# Altium footprint library CAMERA_PcbLib.PcbLib: 21 footprints (part 1 of 2)
Each footprint in its own frame and in the unit in brackets; x right, y up, seen from the top. Pads: shape width x height; smd on the part's side, far side on the other; paste and mask are expansions set on the pad; w line width, h text height; cw(c..) or ccw(c..) is an arc to the next point about the centre after c.
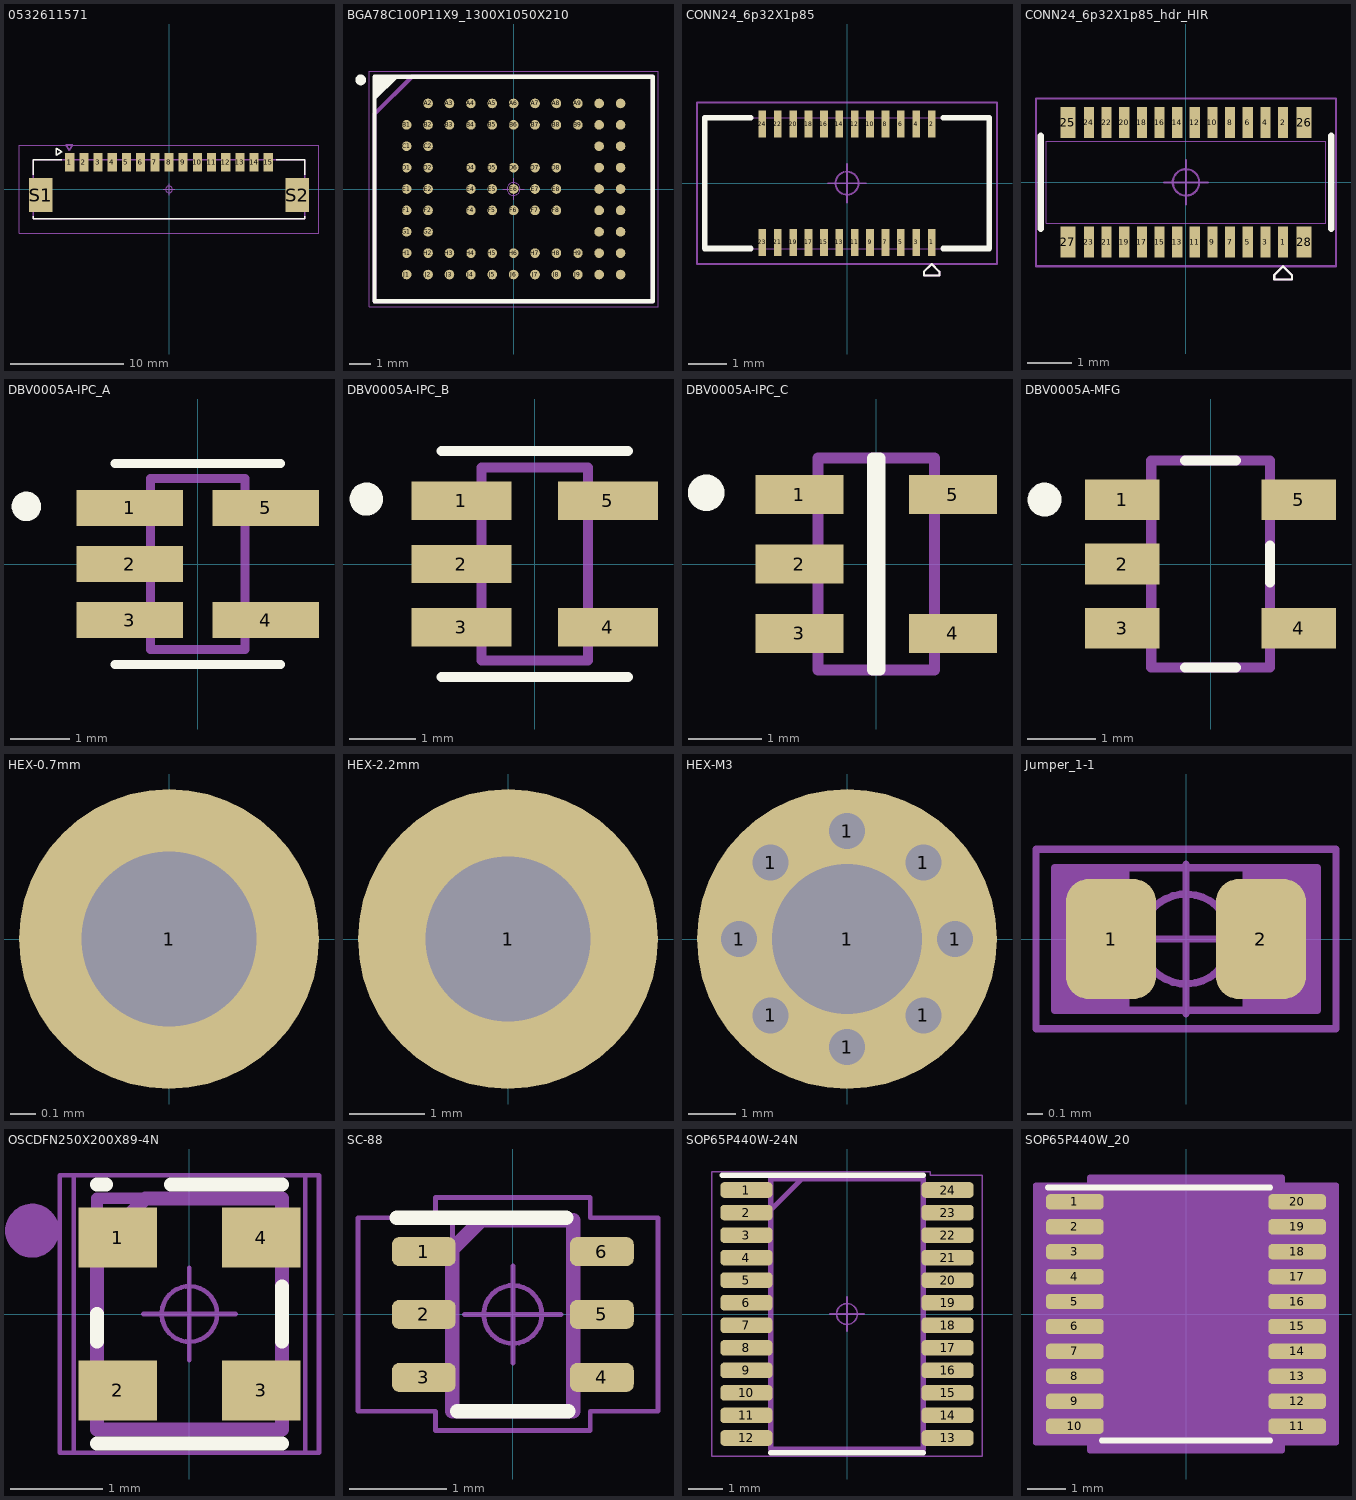
[diagram p0: the footprints below, top view; thin cyan lines are the x and y axes]

## 0532611571 [mm]
height 3.4
pads (17):
  rect 0.8x1.6 smd mask+0.076: 1(-8.75,2.4) 2(-7.5,2.4) 3(-6.25,2.4) 4(-5,2.4) 5(-3.75,2.4) 6(-2.5,2.4) 7(-1.25,2.4) 8(0,2.4) 9(1.25,2.4) 10(2.5,2.4) 11(3.75,2.4) 12(5,2.4) 13(6.25,2.4) 14(7.5,2.4) 15(8.75,2.4)
  rect 2.1x3 smd mask+0.076: S1(-11.3,-0.5) S2(11.3,-0.5)
Top Overlay:
  lines w0.127: -11.95,-2.35 -11.95,-2.6 11.95,-2.6 11.95,-2.35 ; -11.95,1.3 -11.95,2.6 -9.47,2.6 ; 9.47,2.6 11.95,2.6 11.95,1.3 ; -9.942,3.012 -9.442,3.312 -9.942,3.612 -9.942,3.012
Top Courtyard:
  lines w0.05: -13.22,-3.87 -13.22,3.87 13.22,3.87 13.22,-3.87 -13.22,-3.87
Bottom 3D Body:
  text "'.Designator'" at -4.433,-0.827 h1.6
Top Assembly:
  lines w0.127: -11.95,-2.6 -11.95,2.6 11.95,2.6 11.95,-2.6 -11.95,-2.6 ; -9.088,3.942 -8.788,3.442 -8.488,3.942 -9.088,3.942
  text "'.Designator'" at -4.433,-0.827 h1.6
Top Component Center:
  circle w0.05: c0,0 r0.3
  lines w0.05: -0.5,0 0.5,0 ; 0,-0.5 0,0.5
3D body "532611571.stp": height 3.45, standoff 0.05, extent -11.95,-2.607 11.95,2.593

## BGA78C100P11X9_1300X1050X210 [mm] "BGA, 78-Leads, Body 13.00x10.50mmx2.10mm, Pitch 1.00mm"
height 2.1
pads (78):
  round 0.45 smd: A2(-4,4) A3(-3,4) A4(-2,4) A5(-1,4) A6(0,4) A7(1,4) A8(2,4) A9(3,4) A10(4,4) A11(5,4) B1(-5,3) B2(-4,3) B3(-3,3) B4(-2,3) B5(-1,3) B6(0,3) B7(1,3) B8(2,3) B9(3,3) B10(4,3) B11(5,3) C1(-5,2) C2(-4,2) C10(4,2) C11(5,2) D1(-5,1) D2(-4,1) D4(-2,1) D5(-1,1) D6(0,1) D7(1,1) D8(2,1) D10(4,1) D11(5,1) E1(-5,0) E2(-4,0) E4(-2,0) E5(-1,0) E6(0,0) E7(1,0) E8(2,0) E10(4,0) E11(5,0) F1(-5,-1) F2(-4,-1) F4(-2,-1) F5(-1,-1) F6(0,-1) F7(1,-1) F8(2,-1) F10(4,-1) F11(5,-1) G1(-5,-2) G2(-4,-2) G10(4,-2) G11(5,-2) H1(-5,-3) H2(-4,-3) H3(-3,-3) H4(-2,-3) H5(-1,-3) H6(0,-3) H7(1,-3) H8(2,-3) H9(3,-3) H10(4,-3) H11(5,-3) J1(-5,-4) J2(-4,-4) J3(-3,-4) J4(-2,-4) J5(-1,-4) J6(0,-4) J7(1,-4) J8(2,-4) J9(3,-4) J10(4,-4) J11(5,-4)
Top Overlay:
  circle w0.25: c-7.15,5.1 r0.125
  region: -5.5,5.25 -6.5,4.25 -6.5,5.25
  lines w0.2: -6.5,4.25 -5.5,5.25 ; -6.5,-5.25 -6.5,5.25 6.5,5.25 6.5,-5.25 -6.5,-5.25
Top Courtyard:
  lines w0.05: -6.75,-5.5 -6.75,5.5 6.75,5.5 6.75,-5.5 -6.75,-5.5
Top Assembly:
  lines w0.2: -6.5,-5.25 -6.5,3.5 -4.75,5.25 6.5,5.25 6.5,-5.25 -6.5,-5.25
  text "'.Designator'" at -4.433,-0.827 h1.6
Top Component Center:
  circle w0.05: c0,0 r0.3
  lines w0.05: -0.5,0 0.5,0 ; 0,-0.5 0,0.5
3D body "BGA78C100P11X9_1300X1050X210.step": height 2.1, standoff 0, extent -6.5,-5.25 6.5,5.25

## CONN24_6p32X1p85 [mm]
pads (24):
  rect 0.2x0.7 smd paste+0 mask+0: 1(2.2,-1.54) 2(2.2,1.54) 3(1.8,-1.54) 4(1.8,1.54) 5(1.4,-1.54) 6(1.4,1.54) 7(1,-1.54) 8(1,1.54) 9(0.6,-1.54) 10(0.6,1.54) 11(0.2,-1.54) 12(0.2,1.54) 13(-0.2,-1.54) 14(-0.2,1.54) 15(-0.6,-1.54) 16(-0.6,1.54) 17(-1,-1.54) 18(-1,1.54) 19(-1.4,-1.54) 20(-1.4,1.54) 21(-1.8,-1.54) 22(-1.8,1.54) 23(-2.2,-1.54) 24(-2.2,1.54)
Top Overlay:
  lines w0.05: 2,-2.4 2.4,-2.4 2.4,-2.3 2.2,-2.1 2,-2.3 2,-2.4
  lines w0.15: -2.5,-1.7 -3.7,-1.7 -3.7,1.7 -2.5,1.7 ; 2.5,-1.7 3.7,-1.7 3.7,1.7 2.5,1.7
Top Courtyard:
  lines w0.05: -3.9,-2.1 -3.9,2.1 3.9,2.1 3.9,-2.1 -2.9,-2.1 -3.9,-2.1
Top Assembly:
  lines w0.025: -3.7,-1.7 -3.7,1.7 3.7,1.7 3.7,-1.7 -3.7,-1.7
  lines w0.05: 2.2,-1.8 2.2,-1.8 ; 2.2,-1.8 2.2,-1.8 ; 2,-2.4 2,-2.3 2.2,-2.1 2.4,-2.3 2.4,-2.4 2,-2.4
  text "'.Designator'" at -4.433,-0.827 h1.6
Top Component Center:
  circle w0.05: c0,0 r0.3
  lines w0.05: -0.5,0 0.5,0 ; 0,-0.5 0,0.5
3D body "DF40C-24DS-0.4V_51_.stp": height 1.4, standoff -0.05, extent -3.7,-1.69 3.7,1.69

## CONN24_6p32X1p85_hdr_HIR [mm]
pads (28):
  rect 0.23x0.7 smd paste+0 mask+0: 1(2.2,-1.355) 2(2.2,1.355) 3(1.8,-1.355) 4(1.8,1.355) 5(1.4,-1.355) 6(1.4,1.355) 7(1,-1.355) 8(1,1.355) 9(0.6,-1.355) 10(0.6,1.355) 11(0.2,-1.355) 12(0.2,1.355) 13(-0.2,-1.355) 14(-0.2,1.355) 15(-0.6,-1.355) 16(-0.6,1.355) 17(-1,-1.355) 18(-1,1.355) 19(-1.4,-1.355) 20(-1.4,1.355) 21(-1.8,-1.355) 22(-1.8,1.355) 23(-2.2,-1.355) 24(-2.2,1.355)
  rect 0.35x0.7 smd paste-0.66 mask-0.66: 25(-2.675,1.355) 26(2.675,1.355) 27(-2.675,-1.355) 28(2.675,-1.355)
Top Overlay:
  lines w0.05: 2,-2.2 2.4,-2.2 2.4,-2.1 2.2,-1.9 2,-2.1 2,-2.2
  lines w0.152: -3.289,-1.054 -3.289,1.054 ; 3.289,-1.054 3.289,1.054
Top Courtyard:
  lines w0.05: -3.4,-1.9 -3.4,1.9 3.4,1.9 3.4,-1.9 -3.1,-1.9 -3.4,-1.9
Top Assembly:
  lines w0.025: -3.162,-0.927 -3.162,0.927 3.162,0.927 3.162,-0.927 -3.162,-0.927
  lines w0.05: 2,-2.2 2,-2.1 2.2,-1.9 2.4,-2.1 2.4,-2.2 2,-2.2
  text "'.Designator'" at -4.433,-0.827 h1.6
Top Component Center:
  circle w0.05: c0,0 r0.3
  lines w0.05: -0.5,0 0.5,0 ; 0,-0.5 0,0.5
3D body "DF40C-24DP-0.4V_51_.stp": height 1.14, standoff 0, extent -3.16,-1.485 3.16,1.485

## DBV0005A-IPC_A [mm]
pads (5):
  rect 1.805x0.612 smd paste+0 mask+0: 1(-1.15,0.95) 2(-1.15,0) 3(-1.15,-0.95) 4(1.15,-0.95) 5(1.15,0.95)
Top Overlay:
  circle w0.25: c-2.903,0.975 r0.125
  lines w0.15: -1.4,-1.7 1.4,-1.7 ; -1.4,1.7 1.4,1.7
Mechanical 13:
  lines w0.15: -0.8,-1.45 -0.8,1.45 0.8,1.45 0.8,-1.45 -0.8,-1.45
3D body "AP7366-W5-7.step": height 1.4, standoff 0, extent -1.425,-1.5 1.425,1.5

## DBV0005A-IPC_B [mm]
pads (5):
  rect 1.505x0.572 smd paste+0 mask+0: 1(-1.1,0.95) 2(-1.1,0) 3(-1.1,-0.95) 4(1.1,-0.95) 5(1.1,0.95)
Top Overlay:
  circle w0.25: c-2.528,0.975 r0.125
  lines w0.15: -1.4,-1.7 1.4,-1.7 ; -1.4,1.7 1.4,1.7
Mechanical 13:
  lines w0.15: -0.8,-1.45 0.8,-1.45 0.8,1.45 -0.8,1.45 -0.8,-1.45
3D body "AP7366-W5-7.step": height 1.4, standoff 0, extent -1.425,-1.5 1.425,1.5

## DBV0005A-IPC_C [mm]
pads (5):
  rect 1.205x0.532 smd paste+0 mask+0: 1(-1.05,0.95) 2(-1.05,0) 3(-1.05,-0.95) 4(1.05,-0.95) 5(1.05,0.95)
Top Overlay:
  circle w0.25: c-2.328,0.975 r0.125
  lines w0.15: -0.052,-1.45 -0.052,1.45 0.052,1.45 0.052,-1.45 -0.052,-1.45
Mechanical 13:
  lines w0.15: -0.8,-1.45 0.8,-1.45 0.8,1.45 -0.8,1.45 -0.8,-1.45
3D body "AP7366-W5-7.step": height 1.4, standoff 0, extent -1.425,-1.5 1.425,1.5

## DBV0005A-MFG [mm]
pads (5):
  rect 1.1x0.6 smd paste+0 mask+0: 1(-1.3,0.95) 2(-1.3,0) 3(-1.3,-0.95) 4(1.3,-0.95) 5(1.3,0.95)
Top Overlay:
  circle w0.25: c-2.45,0.95 r0.125
  lines w0.15: -0.375,-1.525 0.375,-1.525 ; -0.375,1.525 0.375,1.525 ; 0.875,-0.275 0.875,0.275
Mechanical 13:
  lines w0.15: -0.875,-1.525 0.875,-1.525 0.875,1.525 -0.875,1.525 -0.875,-1.525
3D body "AP7366-W5-7.step": height 1.4, standoff 0, extent -1.425,-1.5 1.425,1.5

## HEX-0.7mm [mm]
pads (1):
  round 1.2 hole 0.7: 1(0,0)

## HEX-2.2mm [mm]
pads (1):
  round 4 hole 2.2: 1(0,0)

## HEX-M3 [mil]
pads (9):
  round 60 hole 30 mask+0: 1(-90,0) 1(-63.64,-63.64) 1(-63.64,63.64) 1(0,-90) 1(0,90) 1(63.64,-63.64) 1(63.64,63.64) 1(90,0)
  round 250 hole 125.2: 1(0,0)

## Jumper_1-1 [mm]
pads (2):
  rrect50% 0.6x0.8 smd paste-2539.97: 1(-0.5,0) 2(0.5,0)
Top Courtyard:
  lines w0.05: -1,-0.6 -1,0.6 1,0.6 1,-0.6 -1,-0.6
Top 3D Body:
  rectangle: 0.375,-0.475 0.875,0.475
  rectangle: -0.875,-0.475 -0.375,0.475
  lines w0.05: -0.875,-0.475 0.875,-0.475 0.875,0.475 -0.875,0.475 -0.875,-0.475
Bottom 3D Body:
  text "'.Designator'" at -4.217,-0.663 h1.6
Top Component Center:
  circle w0.05: c0,0 r0.3
  lines w0.05: -0.5,0 0.5,0 ; 0,-0.5 0,0.5

## OSCDFN250X200X89-4N [mm]
pads (4):
  rect 0.85x0.65 smd: 1(-0.775,0.825) 2(-0.775,-0.825) 3(0.775,-0.825) 4(0.775,0.825)
Top Overlay:
  lines w0.15: -1,-1.4 1,-1.4 ; -1,-0.3 -1,0 ; -1,1.4 -0.9,1.4 ; -0.2,1.4 1,1.4 ; 1,-0.3 1,0.3
Top Courtyard:
  lines w0.05: -1.4,-1.5 -1.4,1.5 1.2,1.5 1.4,1.5 1.4,-1.5 -1.4,-1.5
Top Component Outline:
  lines w0.05: -1,-1.25 1,-1.25 1,1.25 -1,1.25 -1,-1.25
Top Assembly:
  lines w0.15: -1,-1.25 1,-1.25 1,1.25 -0.475,1.25 -1,0.725 -1,-1.25
  text "'.Designator'" at -4.433,-0.827 h1.6
Mechanical 13:
  circle w0.3: c-1.7,0.9 r0.141
  lines w0.127: -1,-1.25 -1,1.25 1,1.25 1,-1.25 -1,-1.25
Mechanical 15:
  lines w0.05: -1.25,-1.5 -1.25,1.5 1.25,1.5 1.25,-1.5 -1.25,-1.5
Top Component Center:
  circle w0.05: c0,0 r0.3
  lines w0.05: -0.5,0 0.5,0 ; 0,-0.5 0,0.5
3D body "CDFN4_2P5X2_MCH.step": height 0.89, standoff 0, extent -1.029,-1.27 1.029,1.27

## SC-88 [mm] "6-TSSOP, SC-88, SOT-363 / SC-88/SC70-6/SOT-363"
pads (6):
  rrect50% 0.66x0.3 smd: 1(-0.92,0.65) 2(-0.92,0) 3(-0.92,-0.65) 4(0.92,-0.65) 5(0.92,0) 6(0.92,0.65)
Top Overlay:
  lines w0.15: -1.2,1 -1.05,1 0.55,1 ; -0.575,-1 0.575,-1
Top Courtyard:
  lines w0.05: -1.6,-1 -1.6,1 -0.8,1 -0.8,1.21 0.8,1.21 0.8,1 1.5,1 1.5,-1 0.8,-1 0.8,-1.2 -0.8,-1.2 -0.8,-1 -1.6,-1
Bottom 3D Body:
  text "'.Designator'" at -4.433,-0.827 h1.6
Top Component Outline:
  lines w0.05: -0.625,-1 -0.625,1 0.625,1 0.625,-1 -0.625,-1
Top Assembly:
  lines w0.15: -0.625,-1 -0.625,0.675 -0.325,0.975 -0.3,0.975 0.625,0.975 0.625,-1 -0.625,-1
  text "'.Designator'" at -4.433,-0.827 h1.6
Top Component Center:
  circle w0.05: c0,0 r0.3
  lines w0.05: -0.5,0 0.5,0 ; 0,-0.5 0,0.5
3D body "BC847BDW1T1G.step": height 1.1, standoff 0, extent -1.05,-1 1.05,1

## SOP65P440W-24N [mm] "TSSOP-24 4.40mm Width"
pads (24):
  rrect50% 1.5x0.45 smd: 1(-2.9,3.575) 2(-2.9,2.925) 3(-2.9,2.275) 4(-2.9,1.625) 5(-2.9,0.975) 6(-2.9,0.325) 7(-2.9,-0.325) 8(-2.9,-0.975) 9(-2.9,-1.625) 10(-2.9,-2.275) 11(-2.9,-2.925) 12(-2.9,-3.575) 13(2.9,-3.575) 14(2.9,-2.925) 15(2.9,-2.275) 16(2.9,-1.625) 17(2.9,-0.975) 18(2.9,-0.325) 19(2.9,0.325) 20(2.9,0.975) 21(2.9,1.625) 22(2.9,2.275) 23(2.9,2.925) 24(2.9,3.575)
Top Overlay:
  lines w0.15: -3.6,4 2.2,4 ; -2.2,-4 2.2,-4
Top Courtyard:
  lines w0.05: -3.9,-4.1 -3.9,4.1 -3.6,4.1 -2.4,4.1 2.4,4.1 2.4,4 3.9,4 3.9,-4.1 2.4,-4.1 -2.3,-4.1 -3.9,-4.1
Top Component Outline:
  lines w0.15: -2.2,-3.9 2.2,-3.9 2.2,3.9 -2.2,3.9 -2.2,-3.9
Top Assembly:
  lines w0.15: -2.2,-3.9 2.2,-3.9 2.2,3.9 -1.3,3.9 -2.1,3.1 -2.2,3 -2.2,-3.9
  text "'.Designator'" at -4.433,-0.827 h1.6
Top Component Center:
  circle w0.05: c0,0 r0.3
  lines w0.05: -0.5,0 0.5,0 ; 0,-0.5 0,0.5
3D body "TCA6416APWR.step": height 1.2, standoff 0, extent -3.2,-3.9 3.2,3.9

## SOP65P440W_20 [mm] "TSSOP 20 4.40mm Width"
pads (20):
  rrect50% 1.5x0.4 smd paste+0 mask+0: 1(-2.9,2.925) 2(-2.9,2.275) 3(-2.9,1.625) 4(-2.9,0.975) 5(-2.9,0.325) 6(-2.9,-0.325) 7(-2.9,-0.975) 8(-2.9,-1.625) 9(-2.9,-2.275) 10(-2.9,-2.925) 11(2.9,-2.925) 12(2.9,-2.275) 13(2.9,-1.625) 14(2.9,-0.975) 15(2.9,-0.325) 16(2.9,0.325) 17(2.9,0.975) 18(2.9,1.625) 19(2.9,2.275) 20(2.9,2.925)
Top Overlay:
  lines w0.15: -3.6,3.3 2.2,3.3 ; -2.2,-3.3 2.2,-3.3
Top Courtyard:
  lines w0.05: -3.9,-3.4 -3.9,3.4 3.9,3.4 3.9,-3.4 -3.9,-3.4
Top Component Outline:
  lines w0: -0.305,3.302 ccw(c0,3.302) 0.305,3.302
  lines w0.025: -3.302,-3.077 -3.302,-2.773 -2.248,-2.773 -2.248,-3.077 -3.302,-3.077 ; -3.302,-2.427 -3.302,-2.123 -2.248,-2.123 -2.248,-2.427 -3.302,-2.427 ; -3.302,-1.777 -3.302,-1.473 -2.248,-1.473 -2.248,-1.777 -3.302,-1.777 ; -3.302,-1.127 -3.302,-0.823 -2.248,-0.823 -2.248,-1.127 -3.302,-1.127 ; -3.302,-0.477 -2.248,-0.477 -2.248,-0.173 -3.302,-0.173 -3.302,-0.477 ; -3.302,0.173 -2.248,0.173 -2.248,0.477 -3.302,0.477 -3.302,0.173 ; -3.302,0.823 -2.248,0.823 -2.248,1.127 -3.302,1.127 -3.302,0.823 ; -3.302,1.473 -2.248,1.473 -2.248,1.777 -3.302,1.777 -3.302,1.473 ; -3.302,2.123 -2.248,2.123 -2.248,2.427 -3.302,2.427 -3.302,2.123 ; -3.302,2.773 -2.248,2.773 -2.248,3.077 -3.302,3.077 -3.302,2.773 ; -2.248,-3.302 -2.248,3.302 2.248,3.302 2.248,-3.302 -2.248,-3.302 ; 2.248,-3.077 2.248,-2.773 3.302,-2.773 3.302,-3.077 2.248,-3.077 ; 2.248,-2.427 2.248,-2.123 3.302,-2.123 3.302,-2.427 2.248,-2.427 ; 2.248,-1.777 2.248,-1.473 3.302,-1.473 3.302,-1.777 2.248,-1.777 ; 2.248,-1.127 2.248,-0.823 3.302,-0.823 3.302,-1.127 2.248,-1.127 ; 2.248,-0.477 3.302,-0.477 3.302,-0.173 2.248,-0.173 2.248,-0.477 ; 2.248,0.173 3.302,0.173 3.302,0.477 2.248,0.477 2.248,0.173 ; 2.248,0.823 3.302,0.823 3.302,1.127 2.248,1.127 2.248,0.823 ; 2.248,1.473 3.302,1.473 3.302,1.777 2.248,1.777 2.248,1.473 ; 2.248,2.123 3.302,2.123 3.302,2.427 2.248,2.427 2.248,2.123 ; 2.248,2.773 3.302,2.773 3.302,3.077 2.248,3.077 2.248,2.773
  text "*" at -2.184,1.956 h1.27
Top Assembly:
  lines w0.15: -2.2,-3.3 2.2,-3.3 2.2,3.3 -1.4,3.3 -2.2,2.5 -2.2,-3.3
  text "'.Designator'" at -4.433,-0.827 h1.6
Mechanical 15:
  region: -2.502,-3.357 -3.912,-3.357 -3.912,3.357 -2.502,3.357 -2.502,3.556 2.502,3.556 2.502,3.357 3.912,3.357 3.912,-3.357 2.502,-3.357 2.502,-3.556 -2.502,-3.556
  lines w0.152: -3.912,-3.357 -3.912,3.357 -2.502,3.357 -2.502,3.556 2.502,3.556 2.502,3.357 3.912,3.357 3.912,-3.357 2.502,-3.357 2.502,-3.556 -2.502,-3.556 -2.502,-3.357 -3.912,-3.357
Top Component Center:
  circle w0.05: c0,0 r0.3
  lines w0.05: -0.5,0 0.5,0 ; 0,-0.5 0,0.5
3D body "TSSOP20_SOT360-1_NXP.step": height 1.09, standoff 0, extent -3.302,-3.302 3.302,3.302